# EAGLE library part DIGITAL_POT (library 764Library)
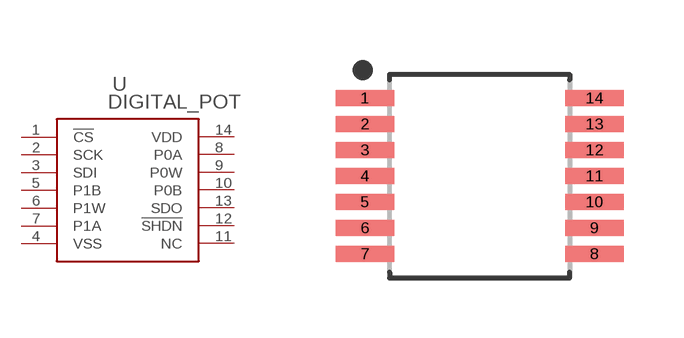
[diagram p0: symbol with the pads of DIGITAL_POT; footprint DIGITAL_POT]

Designator prefix U

## DIGITAL_POTDIGITAL_POT  [DIGITAL_POT]
1  !CS  pas
2  SCK  pas
3  SDI  pas
4  VSS  pas
5  P1B  pas
6  P1W  pas
7  P1A  pas
8  P0A  pas
9  P0W  pas
10  P0B  pas
11  NC  pas
12  !SHDN  pas
13  SDO  pas
14  VDD  pas

## Footprint DIGITAL_POT (pad centres in mm)
14-SOP, 0.65 mm pitch, 6.40 mm span, 5.00 X 4.40 X 1.20 mm body 14-pin SOP package with 0.65 mm pitch, 6.40 mm span with body size 5.00 X 4.40 X 1.20 mm
smd 1.469 x 0.407: 1 -2.871,1.95; 2 -2.871,1.3; 3 -2.871,0.65; 4 -2.871,0; 5 -2.871,-0.65; 6 -2.871,-1.3; 7 -2.871,-1.95; 8 2.871,-1.95; 9 2.871,-1.3; 10 2.871,-0.65; 11 2.871,0; 12 2.871,0.65; 13 2.871,1.3; 14 2.871,1.95